# EAGLE library part SJA1000 (library can_driver)
Stand-alone CAN controller
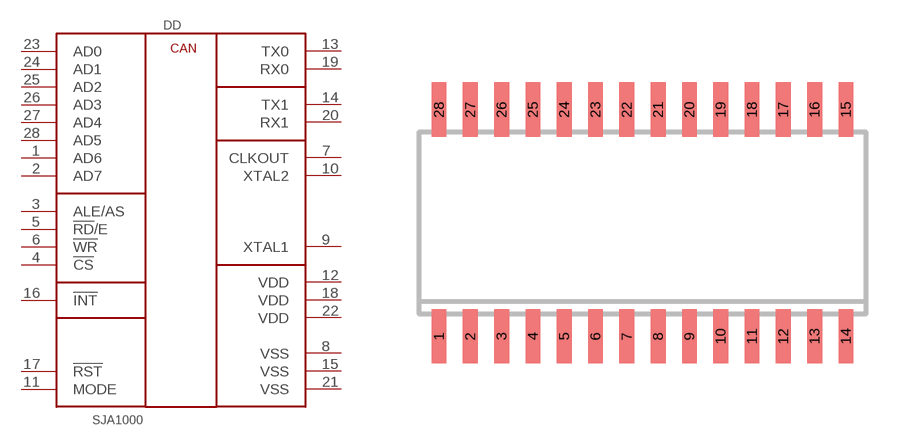
[diagram p1: symbol with the pads of SO28W; footprint SO28W]

Designator prefix DD

## SJA1000T  [SO28W]
1  AD6
2  AD7
3  ALE/AS  in
4  !CS  in
5  !RD!/E  in
6  !WR  in
7  CLKOUT  out
8  VSS  pwr
9  XTAL1  in
10  XTAL2  out
11  MODE  in
12  VDD  pwr
13  TX0  out
14  TX1  out
15  VSS  pwr
16  !INT  out
17  !RST  in
18  VDD  pwr
19  RX0  in
20  RX1  in
21  VSS  pwr
22  VDD  pwr
23  AD0
24  AD1
25  AD2
26  AD3
27  AD4
28  AD5

## Footprint SO28W (pad centres in mm)
SMALL OUTLINE INTEGRATED CIRCUIT wide body 7.5 mm/JEDEC MO-119AB
smd 0.6 x 2.2: 1 -8.255,-4.6; 2 -6.985,-4.6; 3 -5.715,-4.6; 4 -4.445,-4.6; 5 -3.175,-4.6; 6 -1.905,-4.6; 7 -0.635,-4.6; 8 0.635,-4.6; 9 1.905,-4.6; 10 3.175,-4.6; 11 4.445,-4.6; 12 5.715,-4.6; 13 6.985,-4.6; 14 8.255,-4.6; 15 8.255,4.6; 16 6.985,4.6; 17 5.715,4.6; 18 4.445,4.6; 19 3.175,4.6; 20 1.905,4.6; 21 0.635,4.6; 22 -0.635,4.6; 23 -1.905,4.6; 24 -3.175,4.6; 25 -4.445,4.6; 26 -5.715,4.6; 27 -6.985,4.6; 28 -8.255,4.6